# EAGLE library part RFM23BP (library RFM RADIOS)
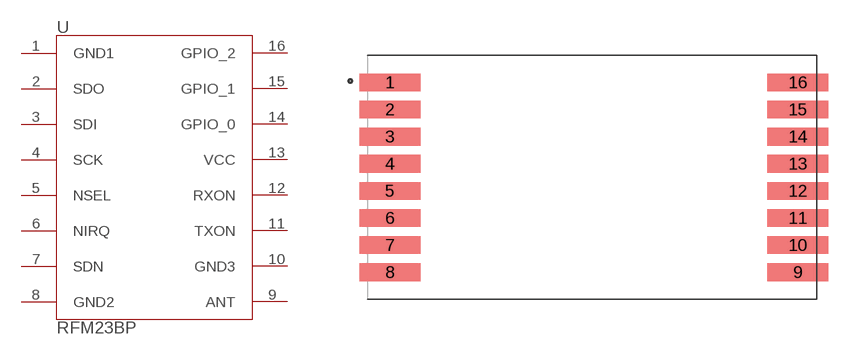
[diagram p0: symbol with the pads of RFM23BP; footprint RFM23BP]

Designator prefix -

## RFM23BP  [RFM23BP]
1  GND1
2  SDO
3  SDI
4  SCK
5  NSEL
6  NIRQ
7  SDN
8  GND2
9  ANT
10  GND3
11  TXON
12  RXON
13  VCC
14  GPIO_0
15  GPIO_1
16  GPIO_2

## Footprint RFM23BP (pad centres in mm)
smd 4.5 x 1.3: 1 -14.55,7; 2 -14.55,5; 3 -14.55,3; 4 -14.55,1; 5 -14.55,-1; 6 -14.55,-3; 7 -14.55,-5; 8 -14.55,-7; 9 15.55,-7; 10 15.55,-5; 11 15.55,-3; 12 15.55,-1; 13 15.55,1; 14 15.55,3; 15 15.55,5; 16 15.55,7